# Altium integrated library Linear Technology Power Management System Supervisor, Monitor and Control.IntLib: 1611 symbols (part 87 of 100)
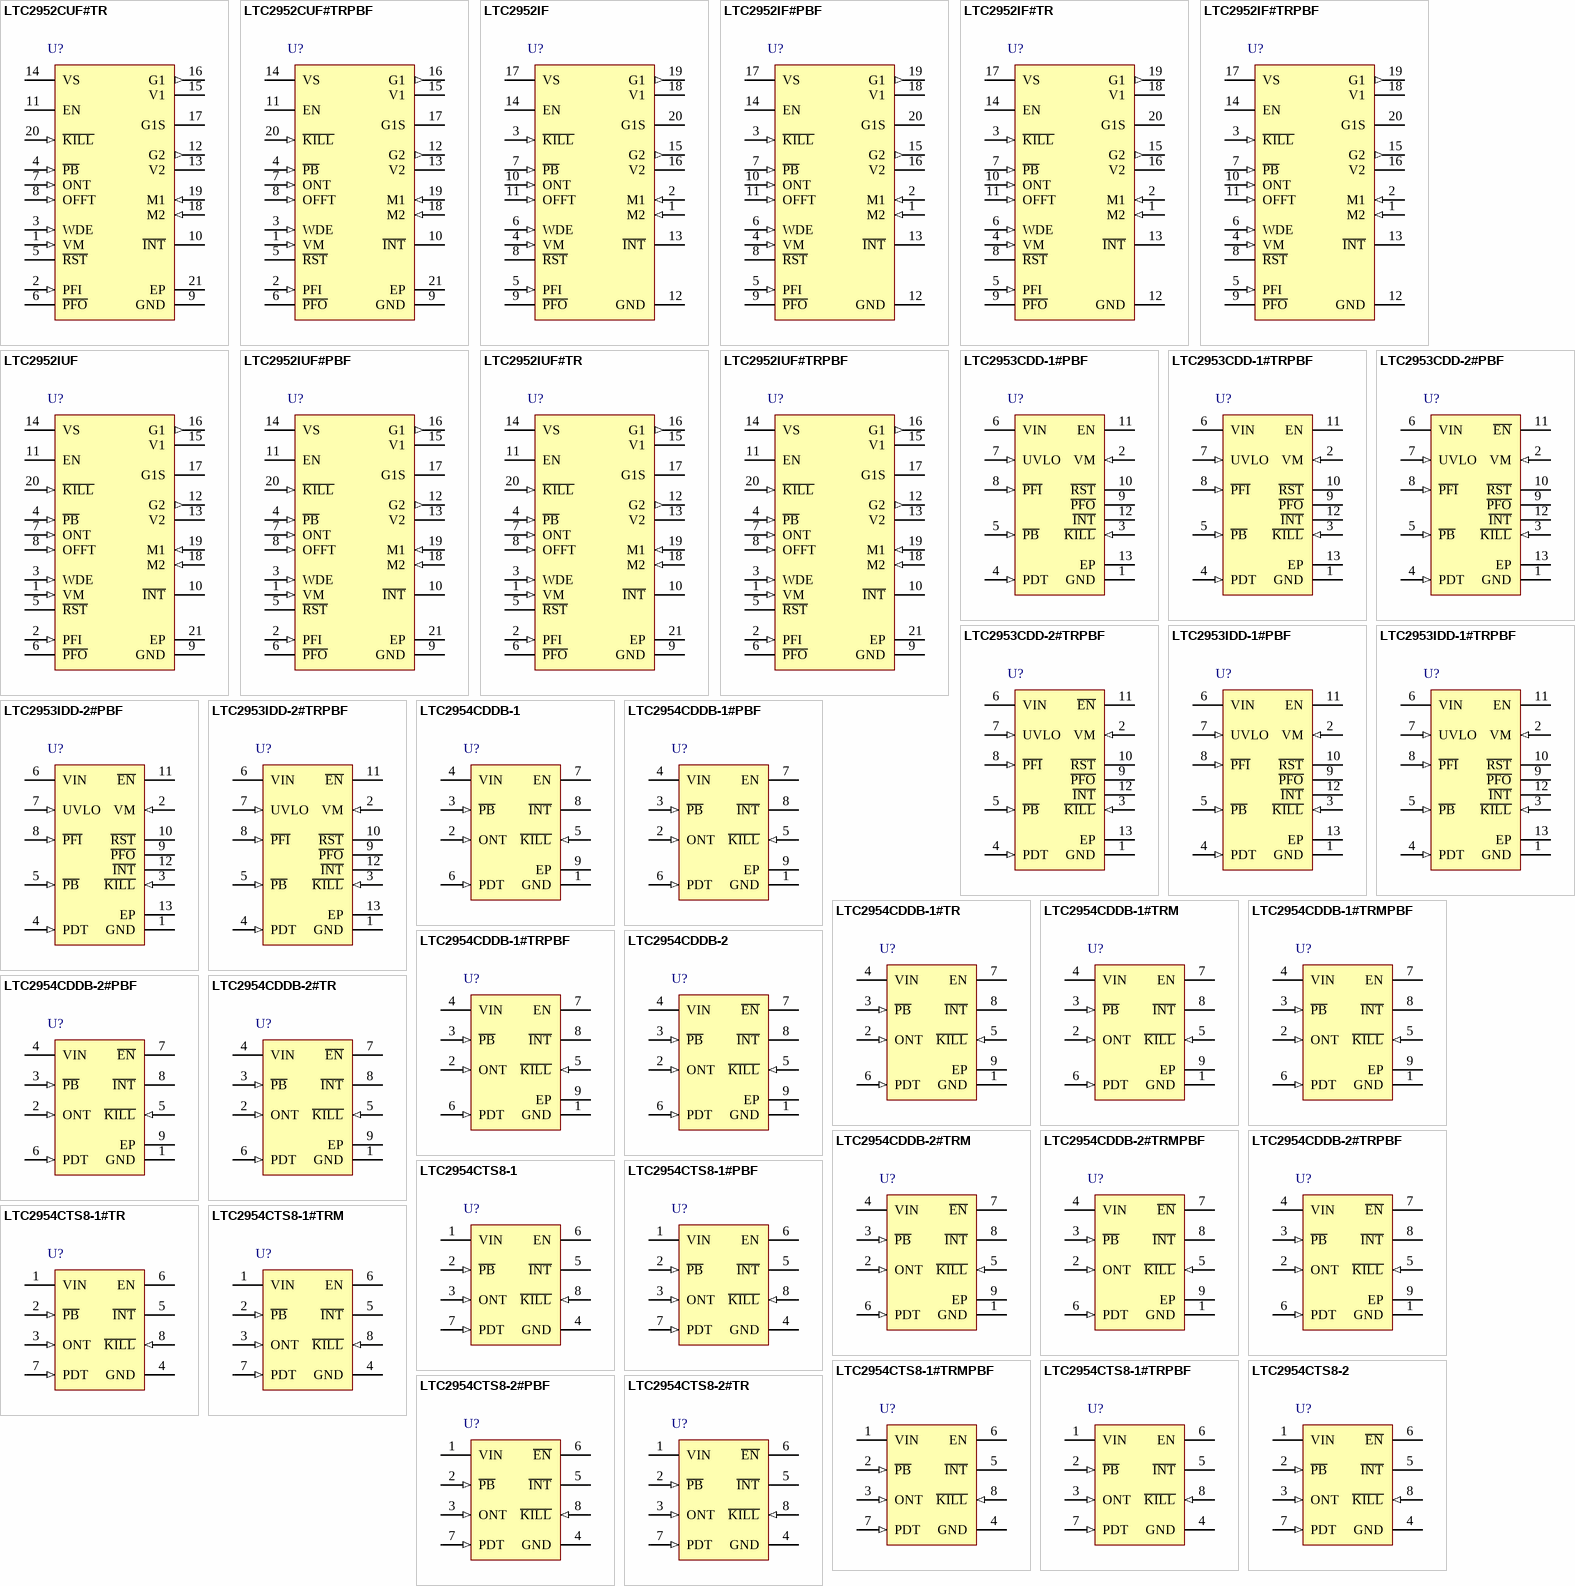
[diagram p131: symbols LTC2952CUF#TR to LTC2954CTS8-2#TR]

## LTC2952IUF#TR
designator U?
Push Button PowerPath Controller with Supervisor, 20-pin QFN (UF-20), -40 to 85 degC, Tape and Reel; Manufacturer: Linear Technology; PartNumber: LTC2952IUF#TR; Number of Supplies(#): 1; DatasheetVersion: Rev. B; PackageVersion: Rev. A, 10/2010; PackageReference: UF20; PackageDescription: 20-Pin Plastic QFN, Body 4 x 4 mm, Pitch 0.5 mm; Packing: Tape and Reel; RoHS: FALSE; Mounting Technology: Surface Mount; Code_JEDEC: MO-220; ComponentLink1Description: Manufacturer URL; ComponentLink1URL: http://www.linear.com/; ComponentLink2Description: Datasheet; ComponentLink2URL: http://cds.linear.com/docs/en/datasheet/2952fb.pdf; ComponentLink3Description: Package Specification; ComponentLink3URL: http://cds.linear.com/docs/en/packaging/QFN_20_05-08-1710.pdf
footprint LT-UF-20_N (QFN, 20-Leads, Body 4.1x4.1mm, Pitch 0.5mm, Thermal Pad 2.45x2.45mm, IPC Medium Density)
footprint LT-UF-20_L (QFN, 20-Leads, Body 4.1x4.1mm, Pitch 0.5mm, Thermal Pad 2.45x2.45mm, IPC High Density)
footprint LT-UF-20_M (QFN, 20-Leads, Body 4.1x4.1mm, Pitch 0.5mm, Thermal Pad 2.45x2.45mm, IPC Low Density)
pins: 1 VM (in) "Voltage Monitor Input. High impedance input to an accurate comparator with a 0.5V threshold. Together with the WDE pin controls the state of the R\S\T\ output pin. Tie to device GND if voltage monitoring function is not used.", 2 PFI (in) "Power Fail Input. High impedance input to an accurate comparator with a 0.5V falling threshold and 15mV hysteresis. This pin controls the state of the P\F\O\ output pin. Tie to device GND if power fail monitoring function is (See Datasheet)", 3 WDE (in) "Watchdog/Extend Input. A three-state input pin. A rising or falling edge must occur on this pin within a 1.6s watchdog timeout period (while the R\S\T\ output is high impedance), to prevent the R\S\T\ pin from going low. The (See Datasheet)", 4 ~{PB} (in) "Pushbutton Input. Input to a comparator with 0.775V falling threshold and 25mV hysteresis. P\B\ has a 10uA internal pull-up to an internal supply (4V). This pin provides on/off power supply control via the EN pin, which is (See Datasheet)", 5 ~{RST} (hiz) "Reset Output. This pin is an open-drain pull-down. Pulls low when VM input is below 0.5V and held low for 200ms after VM input is above 0.5V. Also pulls low for 200ms when the watchdog timer (1.6s) is allowed to time out. (See Datasheet)", 6 ~{PFO} (hiz) "Power Fail Output. This pin is an opendrain pull-down which pulls low when the PFI input is below 0.5V. Leave this pin open or tied to GND if power fail monitoring function is not used.", 7 ONT (in) "On Timing Input. Attach 110pF of external capacitance (CONT) to GND for each additional millisecond of turn-on debounce time beyond the internally set 26ms. Leave open if additional debounce time is not needed.", 8 OFFT (in) "Off Timing Input. Attach 110pF of external capacitance (COFFT) to GND for each additional millisecond of turn-off debounce time beyond the internally set 26ms. Leave open if additional debounce time is not needed.", 9 GND (power) "Device Ground.", 10 ~{INT} (hiz) "Interrupt Output. This pin is an open-drain pull-down pin used to signal the system that a power shutdown is imminent. The I\N\T\ pin asserts low 26ms after the initial falling edge of the pushbutton off event and during the (See Datasheet)", 11 EN (hiz) "DC/DC Enable Output. This pin is a high voltage open-drain pull-down used to control system power. EN pin goes high impedance after an initial turn-on command (via either the digital on or a valid pushbutton on-refer to the (See Datasheet)", 12 G2 (out) "Secondary P-Channel MOSFET Gate Drive Output. When the secondary ideal diode function is enabled and in regulation, the ideal diode controller drives this pin to maintain a forward voltage (VFR) of 20mV between the V2 and VS (See Datasheet)", 13 V2 (power) "Secondary Input Supply Voltage: 2.7V to 28V. Supplies power to the internal circuitry and is the anode input of the secondary ideal diode driver (the cathode input to the ideal diode drivers is the VS pin). A secondary power (See Datasheet)", 14 VS (power) "Power Sense Input. This pin supplies power to the internal circuitry and is the cathode input to the ideal diode drivers (the anode inputs to the ideal diode drivers are the V1 and V2 pins). Bypass this pin to ground with (See Datasheet)", 15 V1 (power) "Primary Input Supply Voltage: 2.7V to 28V. Supplies power to the internal circuitry and is the anode input of the primary ideal diode driver (the cathode input to the ideal diode drivers is the VS pin). A battery or other (See Datasheet)", 16 G1 (out) "Primary P-Channel MOSFET Gate Drive Output. When the primary ideal diode function is enabled and in regulation, the ideal diode controller drives this pin to maintain a forward voltage (VFR) of 20mV between the V1 and VS (See Datasheet)", 17 G1S (hiz) "Open-Drain Primary Ideal Diode Status Output. When the primary P-channel power switch is off, the G1STAT pin will go from an open state to a strong pull-down. This pin can be used to signal the state of the primary ideal (See Datasheet)", 18 M2 (in) "Mode Select Input 2. High impedance input to an accurate comparator with 0.5V falling threshold and 15mV hysteresis. When M1 is low, M2 controls whether the primary (G1) ideal diode function is enabled. When M1 is high, M2 (See Datasheet)", 19 M1 (in) "Mode Select Input 1. Input to an accurate comparator with 0.5V falling threshold and 15mV hysteresis. Has a 3uA internal pull-up to an internal supply (4V). Together with M2 determines the ideal PowerPath and on/off control (See Datasheet)", 20 ~{KILL} (in) "System Power Shutdown Input. Setting this pin low asserts the EN pin low. In modes where M1 is above threshold, setting this pin low also shuts off the ideal diodes. During system turn-on, input to this pin is ignored until (See Datasheet)", 21 EP (power) "The exposed pad may be left open or connected to device ground."

## LTC2952IUF#TRPBF
designator U?
Push Button PowerPath Controller with Supervisor, 20-pin QFN (UF-20), -40 to 85 degC, Pb-Free, Tape and Reel; Manufacturer: Linear Technology; PartNumber: LTC2952IUF#TRPBF; Number of Supplies(#): 1; DatasheetVersion: Rev. B; PackageVersion: Rev. A, 10/2010; PackageReference: UF20; PackageDescription: 20-Pin Plastic QFN, Body 4 x 4 mm, Pitch 0.5 mm; Supplier 1: Digi-Key; Supplier Part Number 1: LTC2952IUF#TRPBF-ND; Packing: Tape and Reel; RoHS: TRUE; Mounting Technology: Surface Mount; Code_JEDEC: MO-220; ComponentLink1Description: Manufacturer URL; ComponentLink1URL: http://www.linear.com/; ComponentLink2Description: Datasheet; ComponentLink2URL: http://cds.linear.com/docs/en/datasheet/2952fb.pdf; ComponentLink3Description: Package Specification; ComponentLink3URL: http://cds.linear.com/docs/en/packaging/QFN_20_05-08-1710.pdf
footprint LT-UF-20_N (QFN, 20-Leads, Body 4.1x4.1mm, Pitch 0.5mm, Thermal Pad 2.45x2.45mm, IPC Medium Density)
footprint LT-UF-20_L (QFN, 20-Leads, Body 4.1x4.1mm, Pitch 0.5mm, Thermal Pad 2.45x2.45mm, IPC High Density)
footprint LT-UF-20_M (QFN, 20-Leads, Body 4.1x4.1mm, Pitch 0.5mm, Thermal Pad 2.45x2.45mm, IPC Low Density)
pins: 1 VM (in) "Voltage Monitor Input. High impedance input to an accurate comparator with a 0.5V threshold. Together with the WDE pin controls the state of the R\S\T\ output pin. Tie to device GND if voltage monitoring function is not used.", 2 PFI (in) "Power Fail Input. High impedance input to an accurate comparator with a 0.5V falling threshold and 15mV hysteresis. This pin controls the state of the P\F\O\ output pin. Tie to device GND if power fail monitoring function is (See Datasheet)", 3 WDE (in) "Watchdog/Extend Input. A three-state input pin. A rising or falling edge must occur on this pin within a 1.6s watchdog timeout period (while the R\S\T\ output is high impedance), to prevent the R\S\T\ pin from going low. The (See Datasheet)", 4 ~{PB} (in) "Pushbutton Input. Input to a comparator with 0.775V falling threshold and 25mV hysteresis. P\B\ has a 10uA internal pull-up to an internal supply (4V). This pin provides on/off power supply control via the EN pin, which is (See Datasheet)", 5 ~{RST} (hiz) "Reset Output. This pin is an open-drain pull-down. Pulls low when VM input is below 0.5V and held low for 200ms after VM input is above 0.5V. Also pulls low for 200ms when the watchdog timer (1.6s) is allowed to time out. (See Datasheet)", 6 ~{PFO} (hiz) "Power Fail Output. This pin is an opendrain pull-down which pulls low when the PFI input is below 0.5V. Leave this pin open or tied to GND if power fail monitoring function is not used.", 7 ONT (in) "On Timing Input. Attach 110pF of external capacitance (CONT) to GND for each additional millisecond of turn-on debounce time beyond the internally set 26ms. Leave open if additional debounce time is not needed.", 8 OFFT (in) "Off Timing Input. Attach 110pF of external capacitance (COFFT) to GND for each additional millisecond of turn-off debounce time beyond the internally set 26ms. Leave open if additional debounce time is not needed.", 9 GND (power) "Device Ground.", 10 ~{INT} (hiz) "Interrupt Output. This pin is an open-drain pull-down pin used to signal the system that a power shutdown is imminent. The I\N\T\ pin asserts low 26ms after the initial falling edge of the pushbutton off event and during the (See Datasheet)", 11 EN (hiz) "DC/DC Enable Output. This pin is a high voltage open-drain pull-down used to control system power. EN pin goes high impedance after an initial turn-on command (via either the digital on or a valid pushbutton on-refer to the (See Datasheet)", 12 G2 (out) "Secondary P-Channel MOSFET Gate Drive Output. When the secondary ideal diode function is enabled and in regulation, the ideal diode controller drives this pin to maintain a forward voltage (VFR) of 20mV between the V2 and VS (See Datasheet)", 13 V2 (power) "Secondary Input Supply Voltage: 2.7V to 28V. Supplies power to the internal circuitry and is the anode input of the secondary ideal diode driver (the cathode input to the ideal diode drivers is the VS pin). A secondary power (See Datasheet)", 14 VS (power) "Power Sense Input. This pin supplies power to the internal circuitry and is the cathode input to the ideal diode drivers (the anode inputs to the ideal diode drivers are the V1 and V2 pins). Bypass this pin to ground with (See Datasheet)", 15 V1 (power) "Primary Input Supply Voltage: 2.7V to 28V. Supplies power to the internal circuitry and is the anode input of the primary ideal diode driver (the cathode input to the ideal diode drivers is the VS pin). A battery or other (See Datasheet)", 16 G1 (out) "Primary P-Channel MOSFET Gate Drive Output. When the primary ideal diode function is enabled and in regulation, the ideal diode controller drives this pin to maintain a forward voltage (VFR) of 20mV between the V1 and VS (See Datasheet)", 17 G1S (hiz) "Open-Drain Primary Ideal Diode Status Output. When the primary P-channel power switch is off, the G1STAT pin will go from an open state to a strong pull-down. This pin can be used to signal the state of the primary ideal (See Datasheet)", 18 M2 (in) "Mode Select Input 2. High impedance input to an accurate comparator with 0.5V falling threshold and 15mV hysteresis. When M1 is low, M2 controls whether the primary (G1) ideal diode function is enabled. When M1 is high, M2 (See Datasheet)", 19 M1 (in) "Mode Select Input 1. Input to an accurate comparator with 0.5V falling threshold and 15mV hysteresis. Has a 3uA internal pull-up to an internal supply (4V). Together with M2 determines the ideal PowerPath and on/off control (See Datasheet)", 20 ~{KILL} (in) "System Power Shutdown Input. Setting this pin low asserts the EN pin low. In modes where M1 is above threshold, setting this pin low also shuts off the ideal diodes. During system turn-on, input to this pin is ignored until (See Datasheet)", 21 EP (power) "The exposed pad may be left open or connected to device ground."

## LTC2953CDD-1#PBF
designator U?
Push Button On / Off Controller with Voltage Monitoring, 12-pin SON (DD-12), 0 to 70 degC, Pb-Free; Manufacturer: Linear Technology; PartNumber: LTC2953CDD-1#PBF; Number of Supplies(#): 1; PackageVersion: Rev. A, 06/2010; PackageReference: DD-12; PackageDescription: 12-Pin Plastic DFN, Body 3 x 3 mm, Pitch 0.45 mm; Supplier 1: Digi-Key; Supplier Part Number 1: LTC2953CDD-1#PBF-ND; Supplier 2: Farnell; Supplier Part Number 2: 1432761; Supplier 3: Newark; Supplier Part Number 3: 58M0728; RoHS: TRUE; Mounting Technology: Surface Mount; ComponentLink1Description: Manufacturer URL; ComponentLink1URL: http://www.linear.com/; ComponentLink2Description: Datasheet; ComponentLink2URL: http://cds.linear.com/docs/en/datasheet/2953f.pdf; ComponentLink3Description: Package Specification; ComponentLink3URL: http://cds.linear.com/docs/en/packaging/DFN_12_05-08-1725.pdf
footprint LT-DD-12_V (SON, 12-Leads, Body 3x3mm, Pitch 0.45mm, Thermal Pad 2.38x1.65mm)
pins: 1 GND (power) "Ground", 2 VM (in) "Voltage Monitor Input. Input to an accurate comparator with a 0.5V threshold. VM controls the state of the R\S\T\ output pin and is independent of P\B\, P\F\I\ and UVLO status. A voltage below 0.5V on this pin asserts R\S\T\ (See Datasheet)", 3 ~{KILL} (in) "K\I\L\L\ Input. Forcing K\I\L\L\ low releases the enable output. During system turn on, this pin is blanked by a 512ms internal timer (tKILL, ON BLANK) to allow the system to pull K\I\L\L\ high. This pin has an accurate 0.6V (See Datasheet)", 4 PDT (in) "Power Down Time Input. A capacitor to ground determines the additional time (6.4 seconds/uF) that P\B\ or UVLO must be held low before releasing the EN/E\N\ and I\N\T\ outputs. If this pin is left open, the power down delay (See Datasheet)", 5 ~{PB} (in) "Push Button Input. Connecting P\B\ to ground through a momentary switch provides On/Off control via the EN/E\N\ and I\N\T\ outputs. An internal 100k pull-up resistor connects to an internal 1.9V bias voltage. The rugged P\B\ (See Datasheet)", 6 VIN (power) "Power Supply Input: 2.7V to 27V.", 7 UVLO (in) "UVLO Comparator Input. When UVLO drops below its falling threshold (0.5V) for more than 32ms, the LTC2953 asserts I\N\T\ low, thereby requesting a system power down. If UVLO remains below its falling threshold (0.5V) for (See Datasheet)", 8 ~{PFI} (in) "Power Fail Comparator Input. Input to an accurate comparator with a 0.5V falling threshold and 4mV of hysteresis. P\F\I\ controls the state of the P\F\O\ output pin and is independent of P\B\, VM and UVLO status. Connect to (See Datasheet)", 9 ~{PFO} (hiz) "Power Fail Output. This pin is a high voltage open drain pull-down. P\F\O\ pulls low when P\F\I\ is below 0.5V. Open circuit when unused.", 10 ~{RST} (oc) "Reset Output. This pin is an open drain pull-down. Pulls low when VM input is below 0.5V and is held low for 200ms after VM input is above 0.5V. Open circuit when unused.", 11 EN (oc) "Open Drain Enable Output. This output is intended to enable system power. EN is asserted high after a valid P\B\ turn on event (tDB, ON). EN is released low if: a) K\I\L\L\ is not driven high (by uP) within 512ms of the (See Datasheet)", 12 ~{INT} (oc) "Open Drain Interrupt Output. After a turn off event is detected (tDB, OFF) from P\B\ or UVLO, the LTC2953 interrupts the system (uP) by asserting I\N\T\ low. The uP would perform power down and housekeeping tasks and then (See Datasheet)", 13 EP (power) "Exposed Pad may be left open or connected to ground."

## LTC2953CDD-1#TRPBF
designator U?
Push Button On / Off Controller with Voltage Monitoring, 12-pin SON (DD-12), 0 to 70 degC, Pb-Free, Tape and Reel; Manufacturer: Linear Technology; PartNumber: LTC2953CDD-1#TRPBF; Number of Supplies(#): 1; PackageVersion: Rev. A, 06/2010; PackageReference: DD-12; PackageDescription: 12-Pin Plastic DFN, Body 3 x 3 mm, Pitch 0.45 mm; Supplier 1: Digi-Key; Supplier Part Number 1: LTC2953CDD-1#TRPBF-ND; Packing: Tape and Reel; RoHS: TRUE; Mounting Technology: Surface Mount; ComponentLink1Description: Manufacturer URL; ComponentLink1URL: http://www.linear.com/; ComponentLink2Description: Datasheet; ComponentLink2URL: http://cds.linear.com/docs/en/datasheet/2953f.pdf; ComponentLink3Description: Package Specification; ComponentLink3URL: http://cds.linear.com/docs/en/packaging/DFN_12_05-08-1725.pdf
footprint LT-DD-12_V (SON, 12-Leads, Body 3x3mm, Pitch 0.45mm, Thermal Pad 2.38x1.65mm)
pins: 1 GND (power) "Ground", 2 VM (in) "Voltage Monitor Input. Input to an accurate comparator with a 0.5V threshold. VM controls the state of the R\S\T\ output pin and is independent of P\B\, P\F\I\ and UVLO status. A voltage below 0.5V on this pin asserts R\S\T\ (See Datasheet)", 3 ~{KILL} (in) "K\I\L\L\ Input. Forcing K\I\L\L\ low releases the enable output. During system turn on, this pin is blanked by a 512ms internal timer (tKILL, ON BLANK) to allow the system to pull K\I\L\L\ high. This pin has an accurate 0.6V (See Datasheet)", 4 PDT (in) "Power Down Time Input. A capacitor to ground determines the additional time (6.4 seconds/uF) that P\B\ or UVLO must be held low before releasing the EN/E\N\ and I\N\T\ outputs. If this pin is left open, the power down delay (See Datasheet)", 5 ~{PB} (in) "Push Button Input. Connecting P\B\ to ground through a momentary switch provides On/Off control via the EN/E\N\ and I\N\T\ outputs. An internal 100k pull-up resistor connects to an internal 1.9V bias voltage. The rugged P\B\ (See Datasheet)", 6 VIN (power) "Power Supply Input: 2.7V to 27V.", 7 UVLO (in) "UVLO Comparator Input. When UVLO drops below its falling threshold (0.5V) for more than 32ms, the LTC2953 asserts I\N\T\ low, thereby requesting a system power down. If UVLO remains below its falling threshold (0.5V) for (See Datasheet)", 8 ~{PFI} (in) "Power Fail Comparator Input. Input to an accurate comparator with a 0.5V falling threshold and 4mV of hysteresis. P\F\I\ controls the state of the P\F\O\ output pin and is independent of P\B\, VM and UVLO status. Connect to (See Datasheet)", 9 ~{PFO} (hiz) "Power Fail Output. This pin is a high voltage open drain pull-down. P\F\O\ pulls low when P\F\I\ is below 0.5V. Open circuit when unused.", 10 ~{RST} (oc) "Reset Output. This pin is an open drain pull-down. Pulls low when VM input is below 0.5V and is held low for 200ms after VM input is above 0.5V. Open circuit when unused.", 11 EN (oc) "Open Drain Enable Output. This output is intended to enable system power. EN is asserted high after a valid P\B\ turn on event (tDB, ON). EN is released low if: a) K\I\L\L\ is not driven high (by uP) within 512ms of the (See Datasheet)", 12 ~{INT} (oc) "Open Drain Interrupt Output. After a turn off event is detected (tDB, OFF) from P\B\ or UVLO, the LTC2953 interrupts the system (uP) by asserting I\N\T\ low. The uP would perform power down and housekeeping tasks and then (See Datasheet)", 13 EP (power) "Exposed Pad may be left open or connected to ground."

## LTC2953CDD-2#PBF
designator U?
Push Button On / Off Controller with Voltage Monitoring, 12-pin SON (DD-12), 0 to 70 degC, Pb-Free; Manufacturer: Linear Technology; PartNumber: LTC2953CDD-2#PBF; Number of Supplies(#): 1; PackageVersion: Rev. A, 06/2010; PackageReference: DD-12; PackageDescription: 12-Pin Plastic DFN, Body 3 x 3 mm, Pitch 0.45 mm; Supplier 1: Digi-Key; Supplier Part Number 1: LTC2953CDD-2#PBF-ND; Supplier 2: Farnell; Supplier Part Number 2: 1432762; RoHS: TRUE; Mounting Technology: Surface Mount; ComponentLink1Description: Manufacturer URL; ComponentLink1URL: http://www.linear.com/; ComponentLink2Description: Datasheet; ComponentLink2URL: http://cds.linear.com/docs/en/datasheet/2953f.pdf; ComponentLink3Description: Package Specification; ComponentLink3URL: http://cds.linear.com/docs/en/packaging/DFN_12_05-08-1725.pdf
footprint LT-DD-12_V (SON, 12-Leads, Body 3x3mm, Pitch 0.45mm, Thermal Pad 2.38x1.65mm)
pins: 1 GND (power) "Ground", 2 VM (in) "Voltage Monitor Input. Input to an accurate comparator with a 0.5V threshold. VM controls the state of the R\S\T\ output pin and is independent of P\B\, P\F\I\ and UVLO status. A voltage below 0.5V on this pin asserts R\S\T\ (See Datasheet)", 3 ~{KILL} (in) "K\I\L\L\ Input. Forcing K\I\L\L\ low releases the enable output. During system turn on, this pin is blanked by a 512ms internal timer (tKILL, ON BLANK) to allow the system to pull K\I\L\L\ high. This pin has an accurate 0.6V (See Datasheet)", 4 PDT (in) "Power Down Time Input. A capacitor to ground determines the additional time (6.4 seconds/uF) that P\B\ or UVLO must be held low before releasing the EN/E\N\ and I\N\T\ outputs. If this pin is left open, the power down delay (See Datasheet)", 5 ~{PB} (in) "Push Button Input. Connecting P\B\ to ground through a momentary switch provides On/Off control via the EN/E\N\ and I\N\T\ outputs. An internal 100k pull-up resistor connects to an internal 1.9V bias voltage. The rugged P\B\ (See Datasheet)", 6 VIN (power) "Power Supply Input: 2.7V to 27V.", 7 UVLO (in) "UVLO Comparator Input. When UVLO drops below its falling threshold (0.5V) for more than 32ms, the LTC2953 asserts I\N\T\ low, thereby requesting a system power down. If UVLO remains below its falling threshold (0.5V) for (See Datasheet)", 8 ~{PFI} (in) "Power Fail Comparator Input. Input to an accurate comparator with a 0.5V falling threshold and 4mV of hysteresis. P\F\I\ controls the state of the P\F\O\ output pin and is independent of P\B\, VM and UVLO status. Connect to (See Datasheet)", 9 ~{PFO} (hiz) "Power Fail Output. This pin is a high voltage open drain pull-down. P\F\O\ pulls low when P\F\I\ is below 0.5V. Open circuit when unused.", 10 ~{RST} (oc) "Reset Output. This pin is an open drain pull-down. Pulls low when VM input is below 0.5V and is held low for 200ms after VM input is above 0.5V. Open circuit when unused.", 11 ~{EN} (oc) "Open Drain Enable Output. This output is intended to enable system power. E\N\ is asserted low after a valid P\B\ turn on event (tDB, ON). E\N\ is released high if: a) K\I\L\L\ is not driven high (by uP) within 512ms of the (See Datasheet)", 12 ~{INT} (oc) "Open Drain Interrupt Output. After a turn off event is detected (tDB, OFF) from P\B\ or UVLO, the LTC2953 interrupts the system (uP) by asserting I\N\T\ low. The uP would perform power down and housekeeping tasks and then (See Datasheet)", 13 EP (power) "Exposed Pad may be left open or connected to ground."

## LTC2953CDD-2#TRPBF
designator U?
Push Button On / Off Controller with Voltage Monitoring, 12-pin SON (DD-12), 0 to 70 degC, Pb-Free, Tape and Reel; Manufacturer: Linear Technology; PartNumber: LTC2953CDD-2#TRPBF; Number of Supplies(#): 1; PackageVersion: Rev. A, 06/2010; PackageReference: DD-12; PackageDescription: 12-Pin Plastic DFN, Body 3 x 3 mm, Pitch 0.45 mm; Supplier 1: Digi-Key; Supplier Part Number 1: LTC2953CDD-2#TRPBF-ND; Packing: Tape and Reel; RoHS: TRUE; Mounting Technology: Surface Mount; ComponentLink1Description: Manufacturer URL; ComponentLink1URL: http://www.linear.com/; ComponentLink2Description: Datasheet; ComponentLink2URL: http://cds.linear.com/docs/en/datasheet/2953f.pdf; ComponentLink3Description: Package Specification; ComponentLink3URL: http://cds.linear.com/docs/en/packaging/DFN_12_05-08-1725.pdf
footprint LT-DD-12_V (SON, 12-Leads, Body 3x3mm, Pitch 0.45mm, Thermal Pad 2.38x1.65mm)
pins: 1 GND (power) "Ground", 2 VM (in) "Voltage Monitor Input. Input to an accurate comparator with a 0.5V threshold. VM controls the state of the R\S\T\ output pin and is independent of P\B\, P\F\I\ and UVLO status. A voltage below 0.5V on this pin asserts R\S\T\ (See Datasheet)", 3 ~{KILL} (in) "K\I\L\L\ Input. Forcing K\I\L\L\ low releases the enable output. During system turn on, this pin is blanked by a 512ms internal timer (tKILL, ON BLANK) to allow the system to pull K\I\L\L\ high. This pin has an accurate 0.6V (See Datasheet)", 4 PDT (in) "Power Down Time Input. A capacitor to ground determines the additional time (6.4 seconds/uF) that P\B\ or UVLO must be held low before releasing the EN/E\N\ and I\N\T\ outputs. If this pin is left open, the power down delay (See Datasheet)", 5 ~{PB} (in) "Push Button Input. Connecting P\B\ to ground through a momentary switch provides On/Off control via the EN/E\N\ and I\N\T\ outputs. An internal 100k pull-up resistor connects to an internal 1.9V bias voltage. The rugged P\B\ (See Datasheet)", 6 VIN (power) "Power Supply Input: 2.7V to 27V.", 7 UVLO (in) "UVLO Comparator Input. When UVLO drops below its falling threshold (0.5V) for more than 32ms, the LTC2953 asserts I\N\T\ low, thereby requesting a system power down. If UVLO remains below its falling threshold (0.5V) for (See Datasheet)", 8 ~{PFI} (in) "Power Fail Comparator Input. Input to an accurate comparator with a 0.5V falling threshold and 4mV of hysteresis. P\F\I\ controls the state of the P\F\O\ output pin and is independent of P\B\, VM and UVLO status. Connect to (See Datasheet)", 9 ~{PFO} (hiz) "Power Fail Output. This pin is a high voltage open drain pull-down. P\F\O\ pulls low when P\F\I\ is below 0.5V. Open circuit when unused.", 10 ~{RST} (oc) "Reset Output. This pin is an open drain pull-down. Pulls low when VM input is below 0.5V and is held low for 200ms after VM input is above 0.5V. Open circuit when unused.", 11 ~{EN} (oc) "Open Drain Enable Output. This output is intended to enable system power. E\N\ is asserted low after a valid P\B\ turn on event (tDB, ON). E\N\ is released high if: a) K\I\L\L\ is not driven high (by uP) within 512ms of the (See Datasheet)", 12 ~{INT} (oc) "Open Drain Interrupt Output. After a turn off event is detected (tDB, OFF) from P\B\ or UVLO, the LTC2953 interrupts the system (uP) by asserting I\N\T\ low. The uP would perform power down and housekeeping tasks and then (See Datasheet)", 13 EP (power) "Exposed Pad may be left open or connected to ground."

## LTC2953IDD-1#PBF
designator U?
Push Button On / Off Controller with Voltage Monitoring, 12-pin SON (DD-12), -40 to 85 degC, Pb-Free; Manufacturer: Linear Technology; PartNumber: LTC2953IDD-1#PBF; Number of Supplies(#): 1; PackageVersion: Rev. A, 06/2010; PackageReference: DD-12; PackageDescription: 12-Pin Plastic DFN, Body 3 x 3 mm, Pitch 0.45 mm; Supplier 1: Digi-Key; Supplier Part Number 1: LTC2953IDD-1#PBF-ND; Supplier 2: Farnell; Supplier Part Number 2: 1432763; Supplier 3: Newark; Supplier Part Number 3: 58M0732; RoHS: TRUE; Mounting Technology: Surface Mount; ComponentLink1Description: Manufacturer URL; ComponentLink1URL: http://www.linear.com/; ComponentLink2Description: Datasheet; ComponentLink2URL: http://cds.linear.com/docs/en/datasheet/2953f.pdf; ComponentLink3Description: Package Specification; ComponentLink3URL: http://cds.linear.com/docs/en/packaging/DFN_12_05-08-1725.pdf
footprint LT-DD-12_V (SON, 12-Leads, Body 3x3mm, Pitch 0.45mm, Thermal Pad 2.38x1.65mm)
pins: 1 GND (power) "Ground", 2 VM (in) "Voltage Monitor Input. Input to an accurate comparator with a 0.5V threshold. VM controls the state of the R\S\T\ output pin and is independent of P\B\, P\F\I\ and UVLO status. A voltage below 0.5V on this pin asserts R\S\T\ (See Datasheet)", 3 ~{KILL} (in) "K\I\L\L\ Input. Forcing K\I\L\L\ low releases the enable output. During system turn on, this pin is blanked by a 512ms internal timer (tKILL, ON BLANK) to allow the system to pull K\I\L\L\ high. This pin has an accurate 0.6V (See Datasheet)", 4 PDT (in) "Power Down Time Input. A capacitor to ground determines the additional time (6.4 seconds/uF) that P\B\ or UVLO must be held low before releasing the EN/E\N\ and I\N\T\ outputs. If this pin is left open, the power down delay (See Datasheet)", 5 ~{PB} (in) "Push Button Input. Connecting P\B\ to ground through a momentary switch provides On/Off control via the EN/E\N\ and I\N\T\ outputs. An internal 100k pull-up resistor connects to an internal 1.9V bias voltage. The rugged P\B\ (See Datasheet)", 6 VIN (power) "Power Supply Input: 2.7V to 27V.", 7 UVLO (in) "UVLO Comparator Input. When UVLO drops below its falling threshold (0.5V) for more than 32ms, the LTC2953 asserts I\N\T\ low, thereby requesting a system power down. If UVLO remains below its falling threshold (0.5V) for (See Datasheet)", 8 ~{PFI} (in) "Power Fail Comparator Input. Input to an accurate comparator with a 0.5V falling threshold and 4mV of hysteresis. P\F\I\ controls the state of the P\F\O\ output pin and is independent of P\B\, VM and UVLO status. Connect to (See Datasheet)", 9 ~{PFO} (hiz) "Power Fail Output. This pin is a high voltage open drain pull-down. P\F\O\ pulls low when P\F\I\ is below 0.5V. Open circuit when unused.", 10 ~{RST} (oc) "Reset Output. This pin is an open drain pull-down. Pulls low when VM input is below 0.5V and is held low for 200ms after VM input is above 0.5V. Open circuit when unused.", 11 EN (oc) "Open Drain Enable Output. This output is intended to enable system power. EN is asserted high after a valid P\B\ turn on event (tDB, ON). EN is released low if: a) K\I\L\L\ is not driven high (by uP) within 512ms of the (See Datasheet)", 12 ~{INT} (oc) "Open Drain Interrupt Output. After a turn off event is detected (tDB, OFF) from P\B\ or UVLO, the LTC2953 interrupts the system (uP) by asserting I\N\T\ low. The uP would perform power down and housekeeping tasks and then (See Datasheet)", 13 EP (power) "Exposed Pad may be left open or connected to ground."

## LTC2953IDD-1#TRPBF
designator U?
Push Button On / Off Controller with Voltage Monitoring, 12-pin SON (DD-12), -40 to 85 degC, Pb-Free, Tape and Reel; Manufacturer: Linear Technology; PartNumber: LTC2953IDD-1#TRPBF; Number of Supplies(#): 1; PackageVersion: Rev. A, 06/2010; PackageReference: DD-12; PackageDescription: 12-Pin Plastic DFN, Body 3 x 3 mm, Pitch 0.45 mm; Supplier 1: Digi-Key; Supplier Part Number 1: LTC2953IDD-1#TRPBF-ND; Packing: Tape and Reel; RoHS: TRUE; Mounting Technology: Surface Mount; ComponentLink1Description: Manufacturer URL; ComponentLink1URL: http://www.linear.com/; ComponentLink2Description: Datasheet; ComponentLink2URL: http://cds.linear.com/docs/en/datasheet/2953f.pdf; ComponentLink3Description: Package Specification; ComponentLink3URL: http://cds.linear.com/docs/en/packaging/DFN_12_05-08-1725.pdf
footprint LT-DD-12_V (SON, 12-Leads, Body 3x3mm, Pitch 0.45mm, Thermal Pad 2.38x1.65mm)
pins: 1 GND (power) "Ground", 2 VM (in) "Voltage Monitor Input. Input to an accurate comparator with a 0.5V threshold. VM controls the state of the R\S\T\ output pin and is independent of P\B\, P\F\I\ and UVLO status. A voltage below 0.5V on this pin asserts R\S\T\ (See Datasheet)", 3 ~{KILL} (in) "K\I\L\L\ Input. Forcing K\I\L\L\ low releases the enable output. During system turn on, this pin is blanked by a 512ms internal timer (tKILL, ON BLANK) to allow the system to pull K\I\L\L\ high. This pin has an accurate 0.6V (See Datasheet)", 4 PDT (in) "Power Down Time Input. A capacitor to ground determines the additional time (6.4 seconds/uF) that P\B\ or UVLO must be held low before releasing the EN/E\N\ and I\N\T\ outputs. If this pin is left open, the power down delay (See Datasheet)", 5 ~{PB} (in) "Push Button Input. Connecting P\B\ to ground through a momentary switch provides On/Off control via the EN/E\N\ and I\N\T\ outputs. An internal 100k pull-up resistor connects to an internal 1.9V bias voltage. The rugged P\B\ (See Datasheet)", 6 VIN (power) "Power Supply Input: 2.7V to 27V.", 7 UVLO (in) "UVLO Comparator Input. When UVLO drops below its falling threshold (0.5V) for more than 32ms, the LTC2953 asserts I\N\T\ low, thereby requesting a system power down. If UVLO remains below its falling threshold (0.5V) for (See Datasheet)", 8 ~{PFI} (in) "Power Fail Comparator Input. Input to an accurate comparator with a 0.5V falling threshold and 4mV of hysteresis. P\F\I\ controls the state of the P\F\O\ output pin and is independent of P\B\, VM and UVLO status. Connect to (See Datasheet)", 9 ~{PFO} (hiz) "Power Fail Output. This pin is a high voltage open drain pull-down. P\F\O\ pulls low when P\F\I\ is below 0.5V. Open circuit when unused.", 10 ~{RST} (oc) "Reset Output. This pin is an open drain pull-down. Pulls low when VM input is below 0.5V and is held low for 200ms after VM input is above 0.5V. Open circuit when unused.", 11 EN (oc) "Open Drain Enable Output. This output is intended to enable system power. EN is asserted high after a valid P\B\ turn on event (tDB, ON). EN is released low if: a) K\I\L\L\ is not driven high (by uP) within 512ms of the (See Datasheet)", 12 ~{INT} (oc) "Open Drain Interrupt Output. After a turn off event is detected (tDB, OFF) from P\B\ or UVLO, the LTC2953 interrupts the system (uP) by asserting I\N\T\ low. The uP would perform power down and housekeeping tasks and then (See Datasheet)", 13 EP (power) "Exposed Pad may be left open or connected to ground."

## LTC2953IDD-2#PBF
designator U?
Push Button On / Off Controller with Voltage Monitoring, 12-pin SON (DD-12), -40 to 85 degC, Pb-Free; Manufacturer: Linear Technology; PartNumber: LTC2953IDD-2#PBF; Number of Supplies(#): 1; PackageVersion: Rev. A, 06/2010; PackageReference: DD-12; PackageDescription: 12-Pin Plastic DFN, Body 3 x 3 mm, Pitch 0.45 mm; Supplier 1: Digi-Key; Supplier Part Number 1: LTC2953IDD-2#PBF-ND; Supplier 2: Farnell; Supplier Part Number 2: 1432764; Supplier 3: Newark; Supplier Part Number 3: 58M0734; RoHS: TRUE; Mounting Technology: Surface Mount; ComponentLink1Description: Manufacturer URL; ComponentLink1URL: http://www.linear.com/; ComponentLink2Description: Datasheet; ComponentLink2URL: http://cds.linear.com/docs/en/datasheet/2953f.pdf; ComponentLink3Description: Package Specification; ComponentLink3URL: http://cds.linear.com/docs/en/packaging/DFN_12_05-08-1725.pdf
footprint LT-DD-12_V (SON, 12-Leads, Body 3x3mm, Pitch 0.45mm, Thermal Pad 2.38x1.65mm)
pins: 1 GND (power) "Ground", 2 VM (in) "Voltage Monitor Input. Input to an accurate comparator with a 0.5V threshold. VM controls the state of the R\S\T\ output pin and is independent of P\B\, P\F\I\ and UVLO status. A voltage below 0.5V on this pin asserts R\S\T\ (See Datasheet)", 3 ~{KILL} (in) "K\I\L\L\ Input. Forcing K\I\L\L\ low releases the enable output. During system turn on, this pin is blanked by a 512ms internal timer (tKILL, ON BLANK) to allow the system to pull K\I\L\L\ high. This pin has an accurate 0.6V (See Datasheet)", 4 PDT (in) "Power Down Time Input. A capacitor to ground determines the additional time (6.4 seconds/uF) that P\B\ or UVLO must be held low before releasing the EN/E\N\ and I\N\T\ outputs. If this pin is left open, the power down delay (See Datasheet)", 5 ~{PB} (in) "Push Button Input. Connecting P\B\ to ground through a momentary switch provides On/Off control via the EN/E\N\ and I\N\T\ outputs. An internal 100k pull-up resistor connects to an internal 1.9V bias voltage. The rugged P\B\ (See Datasheet)", 6 VIN (power) "Power Supply Input: 2.7V to 27V.", 7 UVLO (in) "UVLO Comparator Input. When UVLO drops below its falling threshold (0.5V) for more than 32ms, the LTC2953 asserts I\N\T\ low, thereby requesting a system power down. If UVLO remains below its falling threshold (0.5V) for (See Datasheet)", 8 ~{PFI} (in) "Power Fail Comparator Input. Input to an accurate comparator with a 0.5V falling threshold and 4mV of hysteresis. P\F\I\ controls the state of the P\F\O\ output pin and is independent of P\B\, VM and UVLO status. Connect to (See Datasheet)", 9 ~{PFO} (hiz) "Power Fail Output. This pin is a high voltage open drain pull-down. P\F\O\ pulls low when P\F\I\ is below 0.5V. Open circuit when unused.", 10 ~{RST} (oc) "Reset Output. This pin is an open drain pull-down. Pulls low when VM input is below 0.5V and is held low for 200ms after VM input is above 0.5V. Open circuit when unused.", 11 ~{EN} (oc) "Open Drain Enable Output. This output is intended to enable system power. E\N\ is asserted low after a valid P\B\ turn on event (tDB, ON). E\N\ is released high if: a) K\I\L\L\ is not driven high (by uP) within 512ms of the (See Datasheet)", 12 ~{INT} (oc) "Open Drain Interrupt Output. After a turn off event is detected (tDB, OFF) from P\B\ or UVLO, the LTC2953 interrupts the system (uP) by asserting I\N\T\ low. The uP would perform power down and housekeeping tasks and then (See Datasheet)", 13 EP (power) "Exposed Pad may be left open or connected to ground."

## LTC2953IDD-2#TRPBF
designator U?
Push Button On / Off Controller with Voltage Monitoring, 12-pin SON (DD-12), -40 to 85 degC, Pb-Free, Tape and Reel; Manufacturer: Linear Technology; PartNumber: LTC2953IDD-2#TRPBF; Number of Supplies(#): 1; PackageVersion: Rev. A, 06/2010; PackageReference: DD-12; PackageDescription: 12-Pin Plastic DFN, Body 3 x 3 mm, Pitch 0.45 mm; Supplier 1: Digi-Key; Supplier Part Number 1: LTC2953IDD-2#TRPBF-ND; Packing: Tape and Reel; RoHS: TRUE; Mounting Technology: Surface Mount; ComponentLink1Description: Manufacturer URL; ComponentLink1URL: http://www.linear.com/; ComponentLink2Description: Datasheet; ComponentLink2URL: http://cds.linear.com/docs/en/datasheet/2953f.pdf; ComponentLink3Description: Package Specification; ComponentLink3URL: http://cds.linear.com/docs/en/packaging/DFN_12_05-08-1725.pdf
footprint LT-DD-12_V (SON, 12-Leads, Body 3x3mm, Pitch 0.45mm, Thermal Pad 2.38x1.65mm)
pins: 1 GND (power) "Ground", 2 VM (in) "Voltage Monitor Input. Input to an accurate comparator with a 0.5V threshold. VM controls the state of the R\S\T\ output pin and is independent of P\B\, P\F\I\ and UVLO status. A voltage below 0.5V on this pin asserts R\S\T\ (See Datasheet)", 3 ~{KILL} (in) "K\I\L\L\ Input. Forcing K\I\L\L\ low releases the enable output. During system turn on, this pin is blanked by a 512ms internal timer (tKILL, ON BLANK) to allow the system to pull K\I\L\L\ high. This pin has an accurate 0.6V (See Datasheet)", 4 PDT (in) "Power Down Time Input. A capacitor to ground determines the additional time (6.4 seconds/uF) that P\B\ or UVLO must be held low before releasing the EN/E\N\ and I\N\T\ outputs. If this pin is left open, the power down delay (See Datasheet)", 5 ~{PB} (in) "Push Button Input. Connecting P\B\ to ground through a momentary switch provides On/Off control via the EN/E\N\ and I\N\T\ outputs. An internal 100k pull-up resistor connects to an internal 1.9V bias voltage. The rugged P\B\ (See Datasheet)", 6 VIN (power) "Power Supply Input: 2.7V to 27V.", 7 UVLO (in) "UVLO Comparator Input. When UVLO drops below its falling threshold (0.5V) for more than 32ms, the LTC2953 asserts I\N\T\ low, thereby requesting a system power down. If UVLO remains below its falling threshold (0.5V) for (See Datasheet)", 8 ~{PFI} (in) "Power Fail Comparator Input. Input to an accurate comparator with a 0.5V falling threshold and 4mV of hysteresis. P\F\I\ controls the state of the P\F\O\ output pin and is independent of P\B\, VM and UVLO status. Connect to (See Datasheet)", 9 ~{PFO} (hiz) "Power Fail Output. This pin is a high voltage open drain pull-down. P\F\O\ pulls low when P\F\I\ is below 0.5V. Open circuit when unused.", 10 ~{RST} (oc) "Reset Output. This pin is an open drain pull-down. Pulls low when VM input is below 0.5V and is held low for 200ms after VM input is above 0.5V. Open circuit when unused.", 11 ~{EN} (oc) "Open Drain Enable Output. This output is intended to enable system power. E\N\ is asserted low after a valid P\B\ turn on event (tDB, ON). E\N\ is released high if: a) K\I\L\L\ is not driven high (by uP) within 512ms of the (See Datasheet)", 12 ~{INT} (oc) "Open Drain Interrupt Output. After a turn off event is detected (tDB, OFF) from P\B\ or UVLO, the LTC2953 interrupts the system (uP) by asserting I\N\T\ low. The uP would perform power down and housekeeping tasks and then (See Datasheet)", 13 EP (power) "Exposed Pad may be left open or connected to ground."

## LTC2954CDDB-1
designator U?
Pushbutton On / Off  Controller with µP Interrupt, 8-pin SON (DDB-8), 0 to 70 degC; Manufacturer: Linear Technology; PartNumber: LTC2954CDDB-1; Number of Supplies(#): 1; DatasheetVersion: Rev. B; PackageVersion: Rev. B, 06/2010; PackageReference: DDB-8; PackageDescription: 8-Pin Plastic DFN, Body 3 x 2 mm, Pitch 0.5 mm; RoHS: FALSE; Mounting Technology: Surface Mount; Code_JEDEC: MO-229; ComponentLink1Description: Manufacturer URL; ComponentLink1URL: http://www.linear.com/; ComponentLink2Description: Datasheet; ComponentLink2URL: http://cds.linear.com/docs/en/datasheet/2954fb.pdf; ComponentLink3Description: Package Specification; ComponentLink3URL: http://cds.linear.com/docs/en/packaging/DFN_8_05-08-1702.pdf
footprint LT-DDB-8_V (SON, 8-Leads, Body 3x2mm, Pitch 0.5mm, Thermal Pad 2.2x0.61mm)
pins: 1 GND (power) "Device Ground.", 2 ONT (in) "Turn-On Time Input. Placing an external  capacitor to ground determines the additional time (6.4  seconds/uF) the P\B\ pin must be held low before the enable  output is asserted. Floating this pin results in a default  turn (See Datasheet)", 3 ~{PB} (in) "Pushbutton Input. Connecting P\B\ to  ground through a momentary switch provides on/off  control via the EN/E\N\ and I\N\T\ outputs. An internal 100k  pull-up resistor connects to an internal 1.9V bias voltage.  The rugged (See Datasheet)", 4 VIN (power) "Power Supply Input: 2.7V to 26.4V", 5 ~{KILL} (in) "Kill Input. Forcing K\I\L\L\ low releases the  enable output. During system turn-on, this pin is blanked by  a 512ms internal timer (tK\I\L\L\,ON BLANK) to allow the system  to pull K\I\L\L\ high. This pin has an accurate 0.(See Datasheet)", 6 PDT (in) "Power-Down Time Input. A capacitor  to ground determines the additional time (6.4 seconds/uF)  that the pushbutton must be held low before immediately  releasing the EN/E\N\ and I\N\T\ outputs. Floating this pin  results in (See Datasheet)", 7 EN (oc) "Open Drain Enable Output.  This pin is intended to enable system power. EN is asserted  high after a valid P\B\ turn-on event (tDB,ON + tONT). EN is  released low if: a) K\I\L\L\ is not driven high (by uP) within  512ms of (See Datasheet)", 8 ~{INT} (oc) "Open Drain Interrupt Output. After a  pushbutton turn-off event is detected (tDB,OFF ), the LTC2954  interrupts the system (uP) by asserting the I\N\T\ pin low.  The uP would perform power-down and housekeeping  tasks and (See Datasheet)", 9 EP (power) "Exposed Pad may be left  open or connected to device ground."

## LTC2954CDDB-1#PBF
designator U?
Pushbutton On / Off  Controller with µP Interrupt, 8-pin SON (DDB-8), 0 to 70 degC, Pb-Free; Manufacturer: Linear Technology; PartNumber: LTC2954CDDB-1#PBF; Number of Supplies(#): 1; DatasheetVersion: Rev. B; PackageVersion: Rev. B, 06/2010; PackageReference: DDB-8; PackageDescription: 8-Pin Plastic DFN, Body 3 x 2 mm, Pitch 0.5 mm; Supplier 1: Farnell; Supplier Part Number 1: 2308134; Supplier 2: Newark; Supplier Part Number 2: 78T3121; RoHS: TRUE; Mounting Technology: Surface Mount; Code_JEDEC: MO-229; ComponentLink1Description: Manufacturer URL; ComponentLink1URL: http://www.linear.com/; ComponentLink2Description: Datasheet; ComponentLink2URL: http://cds.linear.com/docs/en/datasheet/2954fb.pdf; ComponentLink3Description: Package Specification; ComponentLink3URL: http://cds.linear.com/docs/en/packaging/DFN_8_05-08-1702.pdf
footprint LT-DDB-8_V (SON, 8-Leads, Body 3x2mm, Pitch 0.5mm, Thermal Pad 2.2x0.61mm)
pins: 1 GND (power) "Device Ground.", 2 ONT (in) "Turn-On Time Input. Placing an external  capacitor to ground determines the additional time (6.4  seconds/uF) the P\B\ pin must be held low before the enable  output is asserted. Floating this pin results in a default  turn (See Datasheet)", 3 ~{PB} (in) "Pushbutton Input. Connecting P\B\ to  ground through a momentary switch provides on/off  control via the EN/E\N\ and I\N\T\ outputs. An internal 100k  pull-up resistor connects to an internal 1.9V bias voltage.  The rugged (See Datasheet)", 4 VIN (power) "Power Supply Input: 2.7V to 26.4V", 5 ~{KILL} (in) "Kill Input. Forcing K\I\L\L\ low releases the  enable output. During system turn-on, this pin is blanked by  a 512ms internal timer (tK\I\L\L\,ON BLANK) to allow the system  to pull K\I\L\L\ high. This pin has an accurate 0.(See Datasheet)", 6 PDT (in) "Power-Down Time Input. A capacitor  to ground determines the additional time (6.4 seconds/uF)  that the pushbutton must be held low before immediately  releasing the EN/E\N\ and I\N\T\ outputs. Floating this pin  results in (See Datasheet)", 7 EN (oc) "Open Drain Enable Output.  This pin is intended to enable system power. EN is asserted  high after a valid P\B\ turn-on event (tDB,ON + tONT). EN is  released low if: a) K\I\L\L\ is not driven high (by uP) within  512ms of (See Datasheet)", 8 ~{INT} (oc) "Open Drain Interrupt Output. After a  pushbutton turn-off event is detected (tDB,OFF ), the LTC2954  interrupts the system (uP) by asserting the I\N\T\ pin low.  The uP would perform power-down and housekeeping  tasks and (See Datasheet)", 9 EP (power) "Exposed Pad may be left  open or connected to device ground."

## LTC2954CDDB-1#TR
designator U?
Pushbutton On / Off  Controller with µP Interrupt, 8-pin SON (DDB-8), 0 to 70 degC, Tape and Reel; Manufacturer: Linear Technology; PartNumber: LTC2954CDDB-1#TR; Number of Supplies(#): 1; DatasheetVersion: Rev. B; PackageVersion: Rev. B, 06/2010; PackageReference: DDB-8; PackageDescription: 8-Pin Plastic DFN, Body 3 x 2 mm, Pitch 0.5 mm; Packing: Tape and Reel; RoHS: FALSE; Mounting Technology: Surface Mount; Code_JEDEC: MO-229; ComponentLink1Description: Manufacturer URL; ComponentLink1URL: http://www.linear.com/; ComponentLink2Description: Datasheet; ComponentLink2URL: http://cds.linear.com/docs/en/datasheet/2954fb.pdf; ComponentLink3Description: Package Specification; ComponentLink3URL: http://cds.linear.com/docs/en/packaging/DFN_8_05-08-1702.pdf
footprint LT-DDB-8_V (SON, 8-Leads, Body 3x2mm, Pitch 0.5mm, Thermal Pad 2.2x0.61mm)
pins: 1 GND (power) "Device Ground.", 2 ONT (in) "Turn-On Time Input. Placing an external  capacitor to ground determines the additional time (6.4  seconds/uF) the P\B\ pin must be held low before the enable  output is asserted. Floating this pin results in a default  turn (See Datasheet)", 3 ~{PB} (in) "Pushbutton Input. Connecting P\B\ to  ground through a momentary switch provides on/off  control via the EN/E\N\ and I\N\T\ outputs. An internal 100k  pull-up resistor connects to an internal 1.9V bias voltage.  The rugged (See Datasheet)", 4 VIN (power) "Power Supply Input: 2.7V to 26.4V", 5 ~{KILL} (in) "Kill Input. Forcing K\I\L\L\ low releases the  enable output. During system turn-on, this pin is blanked by  a 512ms internal timer (tK\I\L\L\,ON BLANK) to allow the system  to pull K\I\L\L\ high. This pin has an accurate 0.(See Datasheet)", 6 PDT (in) "Power-Down Time Input. A capacitor  to ground determines the additional time (6.4 seconds/uF)  that the pushbutton must be held low before immediately  releasing the EN/E\N\ and I\N\T\ outputs. Floating this pin  results in (See Datasheet)", 7 EN (oc) "Open Drain Enable Output.  This pin is intended to enable system power. EN is asserted  high after a valid P\B\ turn-on event (tDB,ON + tONT). EN is  released low if: a) K\I\L\L\ is not driven high (by uP) within  512ms of (See Datasheet)", 8 ~{INT} (oc) "Open Drain Interrupt Output. After a  pushbutton turn-off event is detected (tDB,OFF ), the LTC2954  interrupts the system (uP) by asserting the I\N\T\ pin low.  The uP would perform power-down and housekeeping  tasks and (See Datasheet)", 9 EP (power) "Exposed Pad may be left  open or connected to device ground."